# Altium integrated library EEUFR1H102.IntLib: 1 symbol
Pins are listed as number, name and electrical type; pins without a type are passive.

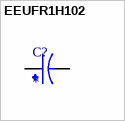
[diagram p0: symbol EEUFR1H102]

## EEUFR1H102
designator C?
1000ÂµF 50V Aluminum Electrolytic Capacitors Radial, Can 10000 Hrs @ 105Â°C; MF: Panasonic; MP: EEUFR1H102; Value: *; Price: None; Package: RADIAL-2 Panasonic; Availability: In Stock; Check_prices: https://www.snapeda.com/parts/EEUFR1H102/Panasonic/view-part/2301894/?ref=eda; SnapEDA_Link: https://www.snapeda.com/parts/EEUFR1H102/Panasonic/view-part/2301894/?ref=snap
footprint CAPPRD750W80D1600H2500
pins: N, P